# EAGLE library part MCP4728-E/UN (library ipas)
IC, DAC, 12BIT, QUAD
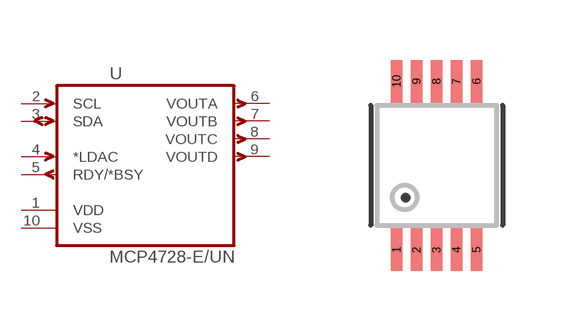
[diagram p14: symbol with the pads of MSOP-10; footprint MSOP-10]

Designator prefix U

## MCP4728-E/UN  [MSOP-10]
1  VDD  pwr
2  SCL  in
3  SDA
4  *LDAC  in
5  RDY/*BSY  out
6  VOUTA  out
7  VOUTB  out
8  VOUTC  out
9  VOUTD  out
10  VSS  pwr

## Footprint MSOP-10 (pad centres in mm)
smd 0.292 x 1.067: 1 -1,-2.11; 2 -0.5,-2.11; 3 0,-2.11; 4 0.5,-2.11; 5 1,-2.11; 6 1,2.11; 7 0.5,2.11; 8 0,2.11; 9 -0.5,2.11; 10 -1,2.11